# EAGLE library part HEADER_POS24_? (library GTOR - Microfit Connector)
Molex - Micro-Fit 3.0 Series connector, 3.00mm (0.118") pitch header, 24 positions.
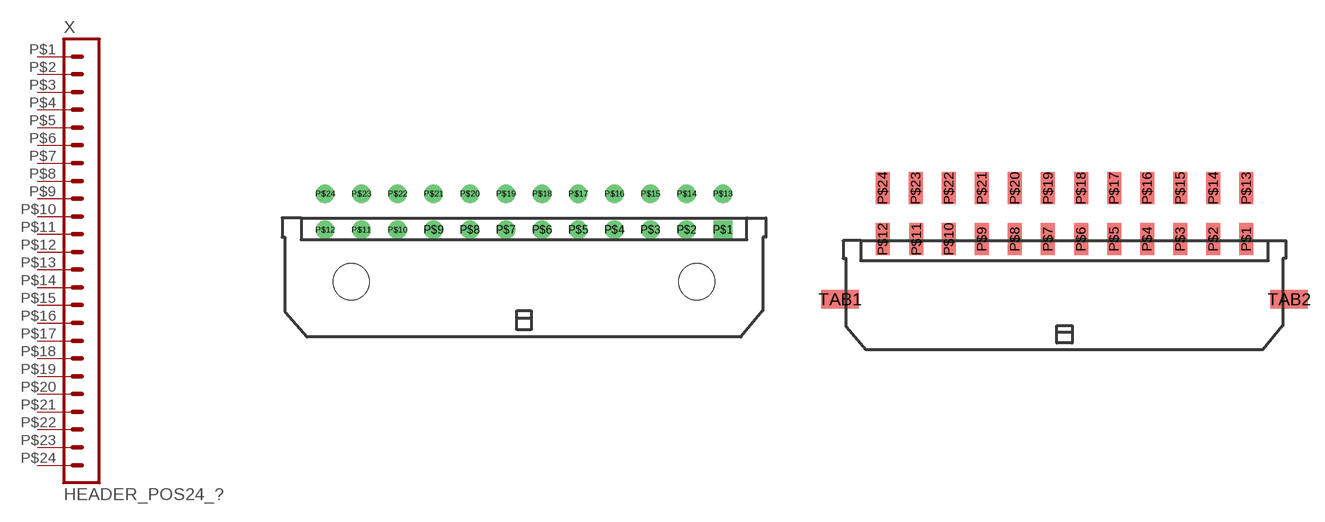
[diagram p12: symbol with the pads of 43045-2400; footprints 43045-2400, 43045-2409]

Designator prefix X

## HEADER_POS24_43045-2400  [43045-2400]
P$1  1  pas
P$2  2  pas
P$3  3  pas
P$4  4  pas
P$5  5  pas
P$6  6  pas
P$7  7  pas
P$8  8  pas
P$9  9  pas
P$10  10  pas
P$11  11  pas
P$12  12  pas
P$13  13  pas
P$14  14  pas
P$15  15  pas
P$16  16  pas
P$17  17  pas
P$18  18  pas
P$19  19  pas
P$20  20  pas
P$21  21  pas
P$22  22  pas
P$23  23  pas
P$24  24  pas

## HEADER_POS24_43045-2409  [43045-2409]
Pads as for 43045-2400

## HEADER_POS24_43045-2406  [43045-2406]
Pads as for 43045-2400

## HEADER_POS24_43045-2412  [43045-2412]
Pads as for 43045-2400

## HEADER_POS24_43045-2415  [43045-2415]
Pads as for 43045-2400

## HEADER_POS24_43045-2418  [43045-2418]
Pads as for 43045-2400

## HEADER_POS24_44914-2401  [44914-2401]
Pads as for 43045-2400

## HEADER_POS24_44769-2401  [44769-2401]
Pads as for 43045-2400

## HEADER_POS24_44432-2401  [44432-2401]
Pads as for 43045-2400

## HEADER_POS24_44428-2401  [44428-2401]
Pads as for 43045-2400

## HEADER_POS24_44764-2401  [44764-2401]
Pads as for 43045-2400

## Footprint 43045-2400 (pad centres in mm)
Molex Micro-Fit 3.0 - Header Shrouded, Thru hole, Right Angle; P/N: SD-43045-2400, SD-43045-2401, SD-43045-2402 http://www.molex.com/pdm_docs/sd/430450200_sd.pdf
drill 1.02 square: P$1 16.5,4.32
drill 1.02: P$2 13.5,4.32; P$3 10.5,4.32; P$4 7.5,4.32; P$5 4.5,4.32; P$6 1.5,4.32; P$7 -1.5,4.32; P$8 -4.5,4.32; P$9 -7.5,4.32; P$10 -10.5,4.32; P$11 -13.5,4.32; P$12 -16.5,4.32; P$13 16.5,7.32; P$14 13.5,7.32; P$15 10.5,7.32; P$16 7.5,7.32; P$17 4.5,7.32; P$18 1.5,7.32; P$19 -1.5,7.32; P$20 -4.5,7.32; P$21 -7.5,7.32; P$22 -10.5,7.32; P$23 -13.5,7.32; P$24 -16.5,7.32
hole 3 at 14.35,0
hole 3 at -14.35,0

## Footprint 43045-2409 (pad centres in mm)
Molex Micro-Fit 3.0 - Header Shrouded, Surface mount, Right Angle, Solderable tabs; P/N: SD-43045-2409, SD-43045-2410, SD-43045-2411 http://www.molex.com/pdm_docs/sd/430450209_sd.pdf
smd 1.27 x 2.92: P$1 16.5,5.47; P$2 13.5,5.47; P$3 10.5,5.47; P$4 7.5,5.47; P$5 4.5,5.47; P$6 1.5,5.47; P$7 -1.5,5.47; P$8 -4.5,5.47; P$9 -7.5,5.47; P$10 -10.5,5.47; P$11 -13.44,5.47; P$12 -16.5,5.47; P$13 16.5,10.1; P$14 13.5,10.1; P$15 10.5,10.1; P$16 7.5,10.1; P$17 4.5,10.1; P$18 1.5,10.1; P$19 -1.5,10.1; P$20 -4.5,10.1; P$21 -7.5,10.1; P$22 -10.5,10.1; P$23 -13.5,10.1; P$24 -16.5,10.1
smd 3.43 x 1.65: TAB1 -20.38,0; TAB2 20.38,0

## Footprint 43045-2406 (pad centres in mm)
Molex Micro-Fit 3.0 - Header Shrouded, Surface mount, Right Angle, Solderable Retention clips; P/N: SD-43045-2406, SD-43045-2407, SD-43045-2408 http://www.molex.com/pdm_docs/sd/430450206_sd.pdf
smd 1.27 x 2.92: P$1 16.5,5.47; P$2 13.5,5.47; P$3 10.5,5.47; P$4 7.5,5.47; P$5 4.5,5.47; P$6 1.5,5.47; P$7 -1.5,5.47; P$8 -4.5,5.47; P$9 -7.5,5.47; P$10 -10.5,5.47; P$11 -13.44,5.47; P$12 -16.5,5.47; P$13 16.5,10.1; P$14 13.5,10.1; P$15 10.5,10.1; P$16 7.5,10.1; P$17 4.5,10.1; P$18 1.5,10.1; P$19 -1.5,10.1; P$20 -4.5,10.1; P$21 -7.5,10.1; P$22 -10.5,10.1; P$23 -13.5,10.1; P$24 -16.5,10.1
hole 2.41 at -18.65,0
hole 2.41 at 18.65,0

## Footprint 43045-2412 (pad centres in mm)
Molex Micro-Fit 3.0 - Header Shrouded, Thru hole, Vertical, with Pegs; P/N: SD-43045-2412, SD-43045-2413, SD-43045-2414 http://www.molex.com/pdm_docs/sd/430450212_sd.pdf
drill 1.02 square: P$1 16.5,0
drill 1.02: P$2 13.5,0; P$3 10.5,0; P$4 7.5,0; P$5 4.5,0; P$6 1.5,0; P$7 -1.5,0; P$8 -4.5,0; P$9 -7.5,0; P$10 -10.5,0; P$11 -13.5,0; P$12 -16.5,0; P$13 16.5,3; P$14 13.5,3; P$15 10.5,3; P$16 7.5,3; P$17 4.5,3; P$18 1.5,3; P$19 -1.5,3; P$20 -4.5,3; P$21 -7.5,3; P$22 -10.5,3; P$23 -13.5,3; P$24 -16.5,3
hole 1.02 at 19.5,3.94
hole 1.02 at -19.5,3.94

## Footprint 43045-2415 (pad centres in mm)
Molex Micro-Fit 3.0 - Header Shrouded, Surface mount, Vertical, with Solderable Retention Clips; P/N: SD-43045-2415, SD-43045-2416, SD-43045-2417 http://www.molex.com/pdm_docs/sd/430450215_sd.pdf
smd 1.27 x 2.54: P$1 16.5,-4.7; P$2 13.5,-4.7; P$3 10.5,-4.7; P$4 7.5,-4.7; P$5 4.5,-4.7; P$6 1.5,-4.7; P$7 -1.5,-4.7; P$8 -4.5,-4.7; P$9 -7.5,-4.7; P$10 -10.5,-4.7; P$11 -13.5,-4.7; P$12 -16.5,-4.7; P$13 16.5,4.7; P$14 13.5,4.7; P$15 10.5,4.7; P$16 7.5,4.7; P$17 4.5,4.7; P$18 1.5,4.7; P$19 -1.5,4.7; P$20 -4.5,4.7; P$21 -7.5,4.7; P$22 -10.5,4.7; P$23 -13.5,4.7; P$24 -16.5,4.7
hole 2.41 at -18.65,0
hole 2.41 at 18.65,0

## Footprint 43045-2418 (pad centres in mm)
Molex Micro-Fit 3.0 - Header Shrouded, Surface mount, Vertical, with Solder Tabs; P/N: SD-43045-2418, SD-43045-2419, SD-43045-2420 http://www.molex.com/pdm_docs/sd/430450218_sd.pdf
smd 3.43 x 1.65: CLIP1 -20.38,0; CLIP2 20.38,0
smd 1.27 x 2.54: P$1 16.5,-4.7; P$2 13.5,-4.7; P$3 10.5,-4.7; P$4 7.5,-4.7; P$5 4.5,-4.7; P$6 1.5,-4.7; P$7 -1.5,-4.7; P$8 -4.5,-4.7; P$9 -7.5,-4.7; P$10 -10.5,-4.7; P$11 -13.5,-4.7; P$12 -16.5,-4.7; P$13 16.5,4.7; P$14 13.5,4.7; P$15 10.5,4.7; P$16 7.5,4.7; P$17 4.5,4.7; P$18 1.5,4.7; P$19 -1.5,4.7; P$20 -4.5,4.7; P$21 -7.5,4.7; P$22 -10.5,4.7; P$23 -13.5,4.7; P$24 -16.5,4.7

## Footprint 44914-2401 (pad centres in mm)
Molex Micro-Fit 3.0 - Header Shrouded, Thru hole, Vertical, Press-fit, with Pegs; P/N: SD-44914-2401, SD-44914-2402, SD-44914-2403 http://www.molex.com/pdm_docs/sd/449140201_sd.pdf
drill 1.09 square: P$1 16.5,0
drill 1.09: P$2 13.5,0; P$3 10.5,0; P$4 7.5,0; P$5 4.5,0; P$6 1.5,0; P$7 -1.5,0; P$8 -4.5,0; P$9 -7.5,0; P$10 -10.5,0; P$11 -13.5,0; P$12 -16.5,0; P$13 16.5,3; P$14 13.5,3; P$15 10.5,3; P$16 7.5,3; P$17 4.5,3; P$18 1.5,3; P$19 -1.5,3; P$20 -4.5,3; P$21 -7.5,3; P$22 -10.5,3; P$23 -13.5,3; P$24 -16.5,3
hole 1.02 at 19.5,3.94
hole 1.02 at -19.5,3.94

## Footprint 44769-2401 (pad centres in mm)
Molex Micro-Fit 3.0 - Board-to-Board BMI (Blind Mate Interface), Receptacle Vertical, Thru hole; P/N: SD-44769-2401, SD-44769-2402, SD-44769-2403 http://www.molex.com/pdm_docs/sd/447690401_sd.pdf
drill 1.02 square: P$1 -16.5,0
drill 1.02: P$2 -13.5,0; P$3 -10.5,0; P$4 -7.5,0; P$5 -4.5,0; P$6 -1.5,0; P$7 1.5,0; P$8 4.5,0; P$9 7.5,0; P$10 10.5,0; P$11 13.5,0; P$12 16.5,0; P$13 -16.5,3; P$14 -13.5,3; P$15 -10.5,3; P$16 -7.5,3; P$17 -4.5,3; P$18 -1.5,3; P$19 1.5,3; P$20 4.5,3; P$21 7.5,3; P$22 10.5,3; P$23 13.5,3; P$24 16.5,3
hole 2.36 at 19.5,3
hole 2.36 at -19.5,3

## Footprint 44432-2401 (pad centres in mm)
Molex Micro-Fit 3.0 - Board-to-Board BMI (Blind Mate Interface), Header Vertical, Thru hole, with Pegs; P/N: SD-44432-2401, SD-44432-2402, SD-44432-2403 http://www.molex.com/pdm_docs/sd/444320401_sd.pdf
drill 1.02 square: P$1 16.5,-3
drill 1.02: P$2 13.5,-3; P$3 10.5,-3; P$4 7.5,-3; P$5 4.5,-3; P$6 1.5,-3; P$7 -1.5,-3; P$8 -4.5,-3; P$9 -7.5,-3; P$10 -10.5,-3; P$11 -13.5,-3; P$12 -16.5,-3; P$13 16.5,0; P$14 13.5,0; P$15 10.5,0; P$16 7.5,0; P$17 4.5,0; P$18 1.5,0; P$19 -1.5,0; P$20 -4.5,0; P$21 -7.5,0; P$22 -10.5,0; P$23 -13.5,0; P$24 -16.5,0
hole 1.57 at -21,1.45
hole 1.57 at 21,1.45

## Footprint 44428-2401 (pad centres in mm)
Molex Micro-Fit 3.0 - Board-to-Board BMI (Blind Mate Interface), Header Right Angle, Thru hole, with Pegs; P/N: SD-44428-2401, SD-44428-2402, SD-44428-2403 http://www.molex.com/pdm_docs/sd/444280401_sd.pdf
drill 1.02 square: P$1 16.5,0
drill 1.02: P$2 13.5,0; P$3 10.5,0; P$4 7.5,0; P$5 4.5,0; P$6 1.5,0; P$7 -1.5,0; P$8 -4.5,0; P$9 -7.5,0; P$10 -10.5,0; P$11 -13.5,0; P$12 -16.5,0; P$13 16.5,3; P$14 13.5,3; P$15 10.5,3; P$16 7.5,3; P$17 4.5,3; P$18 1.5,3; P$19 -1.5,3; P$20 -4.5,3; P$21 -7.5,3; P$22 -10.5,3; P$23 -13.5,3; P$24 -16.5,3
hole 3 at 14.34,-8.53
hole 3 at -14.34,-8.53

## Footprint 44764-2401 (pad centres in mm)
Molex Micro-Fit 3.0 - Board-to-Board BMI (Blind Mate Interface), Receptacle, Right Angle, Thru hole; P/N: SD-44764-2401, SD-44764-2402, SD-44764-2403 http://www.molex.com/pdm_docs/sd/447640401_sd.pdf
drill 1.02 square: P$1 -16.5,0
drill 1.02: P$2 -13.5,0; P$3 -10.5,0; P$4 -7.5,0; P$5 -4.5,0; P$6 -1.5,0; P$7 1.5,0; P$8 4.5,0; P$9 7.5,0; P$10 10.5,0; P$11 13.5,0; P$12 16.5,0; P$13 -16.5,3; P$14 -13.5,3; P$15 -10.5,3; P$16 -7.5,3; P$17 -4.5,3; P$18 -1.5,3; P$19 1.5,3; P$20 4.5,3; P$21 7.5,3; P$22 10.5,3; P$23 13.5,3; P$24 16.5,3
hole 2.36 at -15,-3.05
hole 2.36 at 15,-3.05